# Altium footprint library picphlipvfd.PcbLib: 22 footprints (part 2 of 2)
Each footprint in its own frame and in the unit in brackets; x right, y up, seen from the top. Pads: shape width x height; smd on the part's side, far side on the other; paste and mask are expansions set on the pad; w line width, h text height; cw(c..) or ccw(c..) is an arc to the next point about the centre after c.
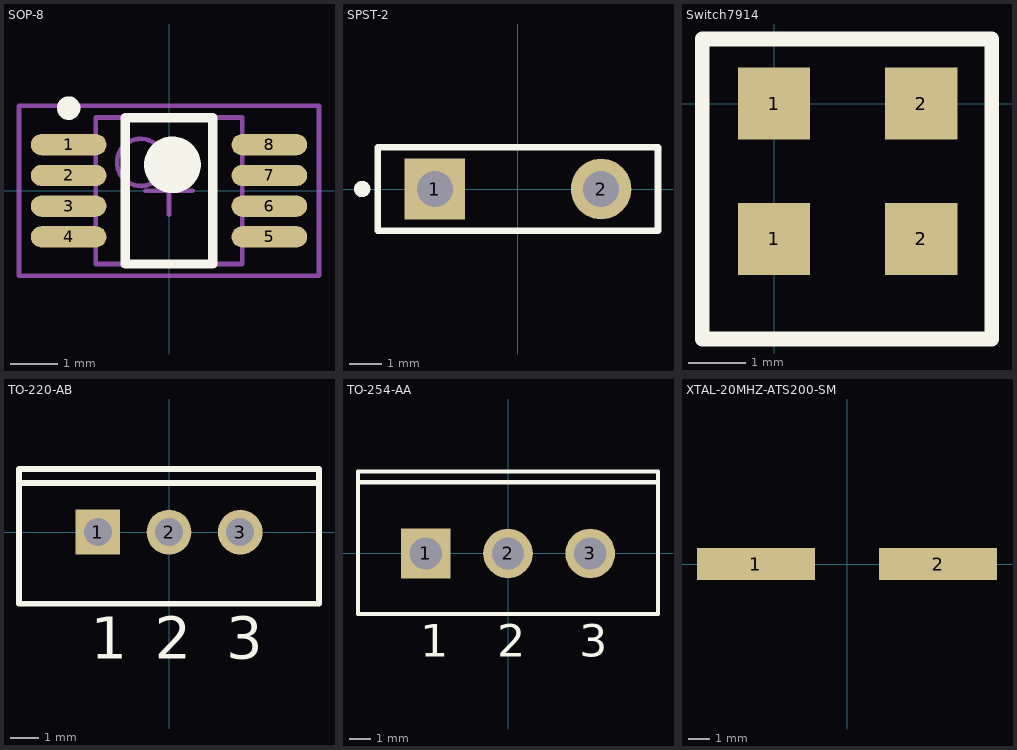
[diagram p1: the footprints below, top view; thin cyan lines are the x and y axes]

## SOP-8 [mm] "TSOP, 8-Leads, Body 3.1x3.1mm (max), Pitch 0.65mm, IPC Medium Density"
height 1.1
pads (8):
  oval 1.6x0.45 smd: 1(-2.125,0.975) 2(-2.125,0.325) 3(-2.125,-0.325) 4(-2.125,-0.975) 5(2.125,-0.975) 6(2.125,-0.325) 7(2.125,0.325) 8(2.125,0.975)
Top Overlay:
  circle w0.6: c0.075,0.55 r0.3
  circle w0.25: c-2.125,1.75 r0.125
  lines w0.2: -0.925,-1.55 0.925,-1.55 0.925,1.55 -0.925,1.55 -0.925,-1.55
Mechanical 13:
  circle w0.1: c-0.6,0.6 r0.5
  lines w0.1: -1.55,-1.55 1.55,-1.55 1.55,1.55 -1.55,1.55 -1.55,-1.55
Mechanical 15:
  lines w0.1: -0.5,0 0.5,0 ; 0,-0.5 0,0.5 ; -3.175,-1.8 3.175,-1.8 3.175,1.8 -3.175,1.8 -3.175,-1.8
3D body: height 1.1, standoff 0.1, extent -1.55,-1.55 1.55,1.55

## SPST-2 [mm] "Switch; 2 Leads"
pads (2):
  rect 1.85x1.85 hole 1.1: 1(-2.54,0)
  round 1.85 hole 1.1: 2(2.54,0)
Top Overlay:
  circle w0.25: c-4.761,-0.001 r0.125
  lines w0.2: -4.28,-1.27 4.28,-1.27 4.28,1.27 -4.28,1.27 -4.28,-1.27

## Switch7914 [mil]
pads (4):
  rect 49x49 smd: 1(0,-92) 1(0,0) 2(100,-92) 2(100,0)
Top Overlay:
  lines w10: -49,-160 148,-160 148,44 -49,44 -49,-160

## TO-220-AB [mm] "TO, Thru-Hole, Vertical, Heatsink Mounted; 3 In-Line Leads; Pitch 2.54 mm"
height 19.1
pads (3):
  rect 1.6x1.6 hole 1: 1(-2.54,0)
  round 1.6 hole 1: 2(0,0) 3(2.54,0)
Top Overlay:
  lines w0.2: -5.35,1.75 5.35,1.75 ; -5.35,-2.55 -5.35,2.25 5.35,2.25 5.35,-2.55 -5.35,-2.55
  text "3" at 2.04,-4.525 h1.5
  text "2" at -0.5,-4.525 h1.5
  text "1" at -2.79,-4.525 h1.5

## TO-254-AA [mm] "TO, Thru-Hole, Vertical, Heatsink Mounted; 3 In-Line Leads; Pitch 3.81 mm"
height 20.3
pads (3):
  rect 2.3x2.3 hole 1.5: 1(-3.81,0)
  round 2.3 hole 1.5: 2(0,0) 3(3.81,0)
Top Overlay:
  lines w0.2: -6.95,3.3 6.95,3.3 ; -6.95,-2.8 -6.95,3.8 6.95,3.8 6.95,-2.8 -6.95,-2.8
  text "3" at 3.31,-4.775 h1.5
  text "2" at -0.5,-4.775 h1.5
  text "1" at -4.06,-4.775 h1.5

## XTAL-20MHZ-ATS200-SM [mil]
pads (2):
  rect 217x59 smd: 1(-167.5,0) 2(167.5,0)
3D body: height 200.79, standoff 0, extent -295.27,-88.58 295.28,88.59